# Altium footprint library jointbar.PCBLIB: 193 footprints (part 3 of 13)
Each footprint in its own frame and in the unit in brackets; x right, y up, seen from the top. Pads: shape width x height; smd on the part's side, far side on the other; paste and mask are expansions set on the pad; w line width, h text height; cw(c..) or ccw(c..) is an arc to the next point about the centre after c.
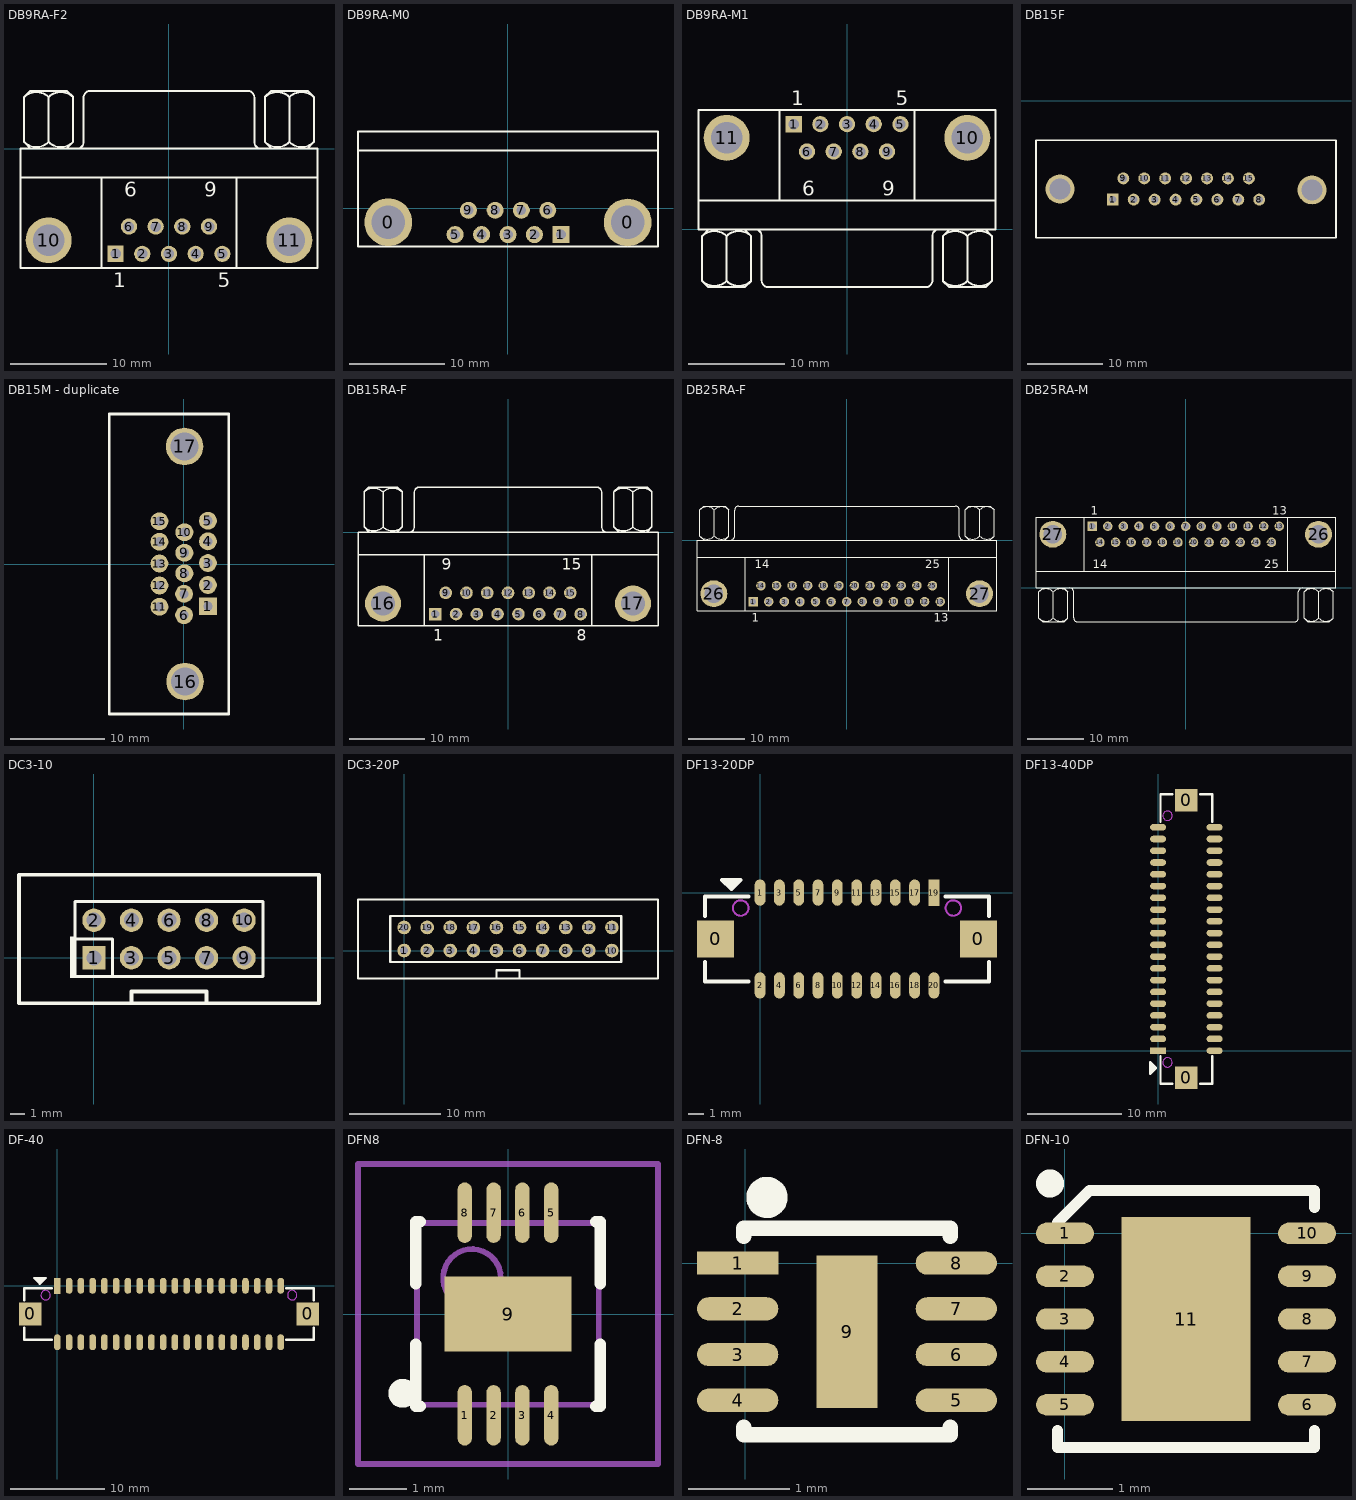
[diagram p2: the footprints below, top view; thin cyan lines are the x and y axes]

## DB9RA-F2 [mm] "Connector; D Subminiature AMPLIMITE 2000; 9 Position; Right Angle"
height 12.75
pads (11):
  rect 1.69x1.69 hole 1.09: 1(-5.54,-10.92)
  round 1.69 hole 1.09: 2(-2.77,-10.92) 3(0,-10.92) 4(2.77,-10.92) 5(5.54,-10.92) 6(-4.155,-8.08) 7(-1.385,-8.08) 8(1.385,-8.08) 9(4.155,-8.08)
  round 4.76 hole 3.26: 10(-12.495,-9.5) 11(12.495,-9.5)
TopOverlay:
  lines w0.2: -15.4,-3 15.4,-3 ; -15.038,5.35 -15.038,0.699 -14.403,0.064 ; -15.038,5.365 -14.403,6 -10.593,6 -9.958,5.365 ; -12.498,0.699 -12.498,5.35 ; -10.593,0.064 -9.958,0.699 -9.958,5.35 ; -9.958,4.086 -9.958,4.298 ; -9.56,0.005 ccw(c-9.56,0.7) -8.865,0.7 -8.865,5.3 ; -8.86,5.305 cw(c-8.165,5.305) -8.165,6 8.165,6 cw(c8.165,5.305) 8.86,5.305 ; -7,-12.4 -7,-3 ; 7,-12.4 7,-3 ; 8.865,5.3 8.865,0.7 ccw(c9.56,0.7) 9.56,0.005 ; 9.962,5.35 9.962,0.699 10.597,0.064 ; 9.962,5.365 10.597,6 14.407,6 15.042,5.365 ; 12.502,0.699 12.502,5.35 ; 14.407,0.064 15.042,0.699 15.042,5.35 ; 15.042,4.086 15.042,4.298 ; -15.4,-12.4 15.4,-12.4 15.4,0 -15.4,0 -15.4,-12.4
  lines w0.203: -15.04,0.697 ccw(c-13.768,1.969) -12.496,0.697 ; -15.038,5.35 cw(c-13.766,4.078) -12.493,5.35 ; -12.502,5.35 cw(c-11.23,4.078) -9.958,5.35 ; -12.5,0.697 ccw(c-11.228,1.969) -9.956,0.697 ; 9.96,0.697 ccw(c11.232,1.969) 12.504,0.697 ; 9.962,5.35 cw(c11.234,4.078) 12.507,5.35 ; 12.498,5.35 cw(c13.77,4.078) 15.042,5.35 ; 12.5,0.697 ccw(c13.772,1.969) 15.044,0.697
  text "6" at -4.655,-4.975 h1.5
  text "9" at 3.655,-4.975 h1.5
  text "5" at 5.04,-14.375 h1.5
  text "1" at -5.79,-14.375 h1.5

## DB9RA-M0 [mil]
height 100
pads (11):
  round 196.85 hole 137.79: 0(-492,-58) 0(494,-59)
  rect 70x70 hole 40: 1(219,-109)
  round 70 hole 40: 2(110,-109) 3(1,-109) 4(-108,-109) 5(-217,-109) 6(165,-9) 7(56,-9) 8(-52,-9) 9(-162,-9)
TopOverlay:
  lines w8: -617,237.26 619,237.26 ; -617,-158.35 -617,316 619,316 619,-158.35 -617,-158.35

## DB9RA-M1 [mm] "Connector; D Subminiature AMPLIMITE 2000; 9 Position; Right Angle"
height 12.75
pads (11):
  rect 1.69x1.69 hole 1.09: 1(-5.54,10.92)
  round 1.69 hole 1.09: 2(-2.77,10.92) 3(0,10.92) 4(2.77,10.92) 5(5.54,10.92) 6(-4.155,8.08) 7(-1.385,8.08) 8(1.385,8.08) 9(4.155,8.08)
  round 4.76 hole 3.26: 10(12.495,9.5) 11(-12.495,9.5)
TopOverlay:
  lines w0.2: -15.4,3 15.4,3 ; -15.042,-5.365 -14.407,-6 -10.597,-6 -9.962,-5.365 ; -15.042,-5.35 -15.042,-0.699 -14.407,-0.064 ; -15.042,-4.298 -15.042,-4.086 ; -12.502,-5.35 -12.502,-0.699 ; -10.597,-0.064 -9.962,-0.699 -9.962,-5.35 ; -9.56,-0.005 cw(c-9.56,-0.7) -8.865,-0.7 -8.865,-5.3 ; -8.86,-5.305 ccw(c-8.165,-5.305) -8.165,-6 8.165,-6 ccw(c8.165,-5.305) 8.86,-5.305 ; -7,3 -7,12.4 ; 7,3 7,12.4 ; 8.865,-5.3 8.865,-0.7 cw(c9.56,-0.7) 9.56,-0.005 ; 9.958,-5.365 10.593,-6 14.403,-6 15.038,-5.365 ; 9.958,-5.35 9.958,-0.699 10.593,-0.064 ; 9.958,-4.298 9.958,-4.086 ; 12.498,-5.35 12.498,-0.699 ; 14.403,-0.064 15.038,-0.699 15.038,-5.35 ; -15.4,0 15.4,0 15.4,12.4 -15.4,12.4 -15.4,0
  lines w0.203: -15.044,-0.697 cw(c-13.772,-1.969) -12.5,-0.697 ; -15.042,-5.35 ccw(c-13.77,-4.078) -12.498,-5.35 ; -12.507,-5.35 ccw(c-11.234,-4.078) -9.962,-5.35 ; -12.504,-0.697 cw(c-11.232,-1.969) -9.96,-0.697 ; 9.956,-0.697 cw(c11.228,-1.969) 12.5,-0.697 ; 9.958,-5.35 ccw(c11.23,-4.078) 12.502,-5.35 ; 12.493,-5.35 ccw(c13.766,-4.078) 15.038,-5.35 ; 12.496,-0.697 cw(c13.768,-1.969) 15.04,-0.697
  text "9" at 3.655,3.48 h1.5
  text "5" at 5.04,12.88 h1.5
  text "1" at -5.79,12.88 h1.5
  text "6" at -4.655,3.48 h1.5

## DB15F [mil]
height 100
pads (17):
  rect 62x62 hole 38: 1(607,-515)
  round 62 hole 38: 2(716,-515) 3(825,-515) 4(934,-515) 5(1043,-515) 6(1152,-515) 7(1261,-515) 8(1370,-515) 9(662,-405) 10(771,-405) 11(880,-405) 12(989,-405) 13(1098,-405) 14(1207,-405) 15(1316,-405)
  round 150 hole 110: ""(332,-460) ""(1645,-465)
TopOverlay:
  lines w8: 207,-715 1770,-715 1770,-205 207,-205 207,-715

## DB15M - duplicate [mil]
pads (17):
  rect 75x75 hole 38: 1(101.5,-177)
  round 75 hole 38: 2(101.5,-88) 3(101.5,4) 4(101.5,95) 5(101.5,181) 6(1.5,-214) 7(1.5,-125) 8(3,-39) 9(3,47) 10(3,133) 11(-101.5,-179) 12(-101.5,-90) 13(-101.5,2) 14(-101.5,93) 15(-101.5,179)
  round 157 hole 118: 16(5.5,-492) 17(3.5,492)
TopOverlay:
  lines w12: -311.5,-628 188.5,-628 188.5,628 -311.5,628 -311.5,-628

## DB15RA-F [mm] "Connector; D Subminiature AMPLIMITE 2000; 15 Position; Right Angle"
height 12.75
pads (17):
  rect 1.69x1.69 hole 1.09: 1(-9.695,-10.92)
  round 1.69 hole 1.09: 2(-6.925,-10.92) 3(-4.155,-10.92) 4(-1.385,-10.92) 5(1.385,-10.92) 6(4.155,-10.92) 7(6.925,-10.92) 8(9.695,-10.92) 9(-8.31,-8.08) 10(-5.54,-8.08) 11(-2.77,-8.08) 12(0,-8.08) 13(2.77,-8.08) 14(5.54,-8.08) 15(8.31,-8.08)
  round 4.8 hole 3.18: 16(-16.66,-9.5) 17(16.66,-9.5)
TopOverlay:
  lines w0.2: -20,-3 20,-3 ; -19.188,5.35 -19.188,0.699 -18.553,0.064 ; -19.188,5.365 -18.553,6 -14.743,6 -14.108,5.365 ; -16.648,0.699 -16.648,5.35 ; -14.743,0.064 -14.108,0.699 -14.108,5.35 ; -14.108,4.086 -14.108,4.298 ; -13.195,0.005 ccw(c-13.195,0.7) -12.5,0.7 -12.5,5.3 ; -12.495,5.305 cw(c-11.8,5.305) -11.8,6 11.8,6 cw(c11.8,5.305) 12.495,5.305 ; -11.14,-12.5 -11.14,-3 ; 11.14,-12.5 11.14,-3 ; 12.5,5.3 12.5,0.7 ccw(c13.195,0.7) 13.195,0.005 ; 14.112,5.35 14.112,0.699 14.747,0.064 ; 14.112,5.365 14.747,6 18.557,6 19.192,5.365 ; 16.652,0.699 16.652,5.35 ; 18.557,0.064 19.192,0.699 19.192,5.35 ; 19.192,4.086 19.192,4.298 ; -20,-12.5 -20,0 20,0 20,-12.5 -20,-12.5
  lines w0.203: -19.19,0.697 ccw(c-17.918,1.969) -16.646,0.697 ; -19.188,5.35 cw(c-17.916,4.078) -16.643,5.35 ; -16.652,5.35 cw(c-15.38,4.078) -14.108,5.35 ; -16.65,0.697 ccw(c-15.378,1.969) -14.106,0.697 ; 14.11,0.697 ccw(c15.382,1.969) 16.654,0.697 ; 14.112,5.35 cw(c15.384,4.078) 16.657,5.35 ; 16.648,5.35 cw(c17.92,4.078) 19.192,5.35 ; 16.65,0.697 ccw(c17.922,1.969) 19.194,0.697
  text "1" at -9.945,-14.475 h1.5
  text "8" at 9.195,-14.475 h1.5
  text "15" at 7.185,-4.975 h1.5
  text "9" at -8.81,-4.975 h1.5

## DB25RA-F [mm] "Connector; D Subminiature AMPLIMITE 2000; 25 Position; Right Angle"
height 12.75
pads (27):
  rect 1.69x1.69 hole 1.09: 1(-16.566,-10.92)
  round 1.69 hole 1.09: 2(-13.805,-10.92) 3(-11.044,-10.92) 4(-8.283,-10.92) 5(-5.522,-10.92) 6(-2.761,-10.92) 7(0,-10.92) 8(2.761,-10.92) 9(5.522,-10.92) 10(8.283,-10.92) 11(11.044,-10.92) 12(13.805,-10.92) 13(16.566,-10.92) 14(-15.185,-8.08) 15(-12.424,-8.08) 16(-9.663,-8.08) 17(-6.902,-8.08) 18(-4.142,-8.08) 19(-1.381,-8.08) 20(1.381,-8.08) 21(4.142,-8.08) 22(6.903,-8.08) 23(9.664,-8.08) 24(12.425,-8.08) 25(15.186,-8.08)
  round 4.76 hole 3.26: 26(-23.526,-9.5) 27(23.526,-9.5)
TopOverlay:
  lines w0.2: -26.496,-3 26.604,-3 ; -25.984,5.35 -25.984,0.699 -25.349,0.064 ; -25.984,5.365 -25.349,6 -21.539,6 -20.904,5.365 ; -23.444,0.699 -23.444,5.35 ; -21.539,0.064 -20.904,0.699 -20.904,5.35 ; -20.904,4.086 -20.904,4.298 ; -20.541,0.005 ccw(c-20.541,0.7) -19.846,0.7 -19.846,5.3 ; -19.841,5.305 cw(c-19.146,5.305) -19.146,6 19.254,6 cw(c19.254,5.305) 19.949,5.305 ; -17.946,-12.5 -17.946,-3 ; 18.054,-12.5 18.054,-3 ; 19.954,5.3 19.954,0.7 ccw(c20.649,0.7) 20.649,0.005 ; 21.016,5.35 21.016,0.699 21.651,0.064 ; 21.016,5.365 21.651,6 25.461,6 26.096,5.365 ; 23.556,0.699 23.556,5.35 ; 25.461,0.064 26.096,0.699 26.096,5.35 ; 26.096,4.086 26.096,4.298 ; -26.496,-12.5 -26.496,0 26.604,0 26.604,-12.5 -26.496,-12.5
  lines w0.203: -25.986,0.697 ccw(c-24.714,1.969) -23.442,0.697 ; -25.984,5.35 cw(c-24.712,4.078) -23.439,5.35 ; -23.448,5.35 cw(c-22.176,4.078) -20.904,5.35 ; -23.446,0.697 ccw(c-22.174,1.969) -20.902,0.697 ; 21.014,0.697 ccw(c22.286,1.969) 23.558,0.697 ; 21.016,5.35 cw(c22.288,4.078) 23.561,5.35 ; 23.552,5.35 cw(c24.824,4.078) 26.096,5.35 ; 23.554,0.697 ccw(c24.826,1.969) 26.098,0.697
  text "25" at 13.935,-4.975 h1.5
  text "14" at -16.31,-4.975 h1.5
  text "13" at 15.441,-14.475 h1.5
  text "1" at -16.816,-14.475 h1.5

## DB25RA-M [mm] "Connector; D Subminiature AMPLIMITE 2000; 25 Position; Right Angle"
height 12.75
pads (27):
  rect 1.69x1.69 hole 1.09: 1(-16.566,10.92)
  round 1.69 hole 1.09: 2(-13.805,10.92) 3(-11.044,10.92) 4(-8.283,10.92) 5(-5.522,10.92) 6(-2.761,10.92) 7(0,10.92) 8(2.761,10.92) 9(5.522,10.92) 10(8.283,10.92) 11(11.044,10.92) 12(13.805,10.92) 13(16.566,10.92) 14(-15.185,8.08) 15(-12.424,8.08) 16(-9.663,8.08) 17(-6.902,8.08) 18(-4.141,8.08) 19(-1.38,8.08) 20(1.381,8.08) 21(4.142,8.08) 22(6.903,8.08) 23(9.664,8.08) 24(12.425,8.08) 25(15.186,8.08)
  round 4.76 hole 3.26: 26(23.526,9.5) 27(-23.526,9.5)
TopOverlay:
  lines w0.2: -26.496,3 26.604,3 ; -25.988,-5.365 -25.353,-6 -21.543,-6 -20.908,-5.365 ; -25.988,-5.35 -25.988,-0.699 -25.353,-0.064 ; -25.988,-4.298 -25.988,-4.086 ; -23.448,-5.35 -23.448,-0.699 ; -21.543,-0.064 -20.908,-0.699 -20.908,-5.35 ; -20.541,-0.005 cw(c-20.541,-0.7) -19.846,-0.7 -19.846,-5.3 ; -19.841,-5.305 ccw(c-19.146,-5.305) -19.146,-6 19.254,-6 ccw(c19.254,-5.305) 19.949,-5.305 ; -17.946,3 -17.946,12.5 ; 18.054,3 18.054,12.5 ; 19.954,-5.3 19.954,-0.7 cw(c20.649,-0.7) 20.649,-0.005 ; 21.012,-5.365 21.647,-6 25.457,-6 26.092,-5.365 ; 21.012,-5.35 21.012,-0.699 21.647,-0.064 ; 21.012,-4.298 21.012,-4.086 ; 23.552,-5.35 23.552,-0.699 ; 25.457,-0.064 26.092,-0.699 26.092,-5.35 ; -26.496,0 -26.496,12.5 26.604,12.5 26.604,0 -26.496,0
  lines w0.203: -25.99,-0.697 cw(c-24.718,-1.969) -23.446,-0.697 ; -25.988,-5.35 ccw(c-24.716,-4.078) -23.444,-5.35 ; -23.453,-5.35 ccw(c-22.18,-4.078) -20.908,-5.35 ; -23.45,-0.697 cw(c-22.178,-1.969) -20.906,-0.697 ; 21.01,-0.697 cw(c22.282,-1.969) 23.554,-0.697 ; 21.012,-5.35 ccw(c22.284,-4.078) 23.556,-5.35 ; 23.547,-5.35 ccw(c24.82,-4.078) 26.092,-5.35 ; 23.55,-0.697 cw(c24.822,-1.969) 26.094,-0.697
  text "25" at 13.936,3.48 h1.5
  text "14" at -16.435,3.48 h1.5
  text "13" at 15.316,12.98 h1.5
  text "1" at -16.816,12.98 h1.5

## DC3-10 [mil]
pads (10):
  rect 62x62 hole 40: 1(0,0)
  round 62 hole 40: 2(0,100) 3(100,0) 4(100,100) 5(200,0) 6(200,100) 7(300,0) 8(300,100) 9(400,0) 10(400,100)
TopOverlay:
  rectangle: -64,-54 -50,56
  lines w8: -50,50 50,50 50,-50 ; -50,-50 450,-50 450,150 -50,150 -50,-50
  lines w10: 100,-121.26 100,-90 300,-90 300,-121.26 ; -199.61,-121.26 599.61,-121.26 599.61,221.26 -199.61,221.26 -199.61,-121.26

## DC3-20P [mm]
pads (20):
  round 1.5 hole 0.9: 1(0,0) 2(2.54,0) 3(5.08,0) 4(7.62,0) 5(10.16,0) 6(12.7,0) 7(15.24,0) 8(17.78,0) 9(20.32,0) 10(22.86,0) 11(22.86,2.54) 12(20.32,2.54) 13(17.78,2.54) 14(15.24,2.54) 15(12.7,2.54) 16(10.16,2.54) 17(7.62,2.54) 18(5.08,2.54) 19(2.54,2.54) 20(0,2.54)
TopOverlay:
  lines w0.254: 10.16,-3.048 10.16,-2.159 12.7,-2.159 12.7,-3.048 ; -5.07,-3.08 -5.07,5.62 27.93,5.62 27.93,-3.08 -5.07,-3.08 ; -1.524,-1.27 23.876,-1.27 23.876,3.81 -1.524,3.81 -1.524,-1.27
3D body: height 10.1, standoff -1.5, extent 11.176,-1.27 23.876,1.27
3D body: height 10.1, standoff -1.5, extent 11.176,1.27 23.876,3.81
3D body: height 10.1, standoff -1.5, extent -1.524,1.27 11.176,3.81
3D body: height 10.1, standoff -1.5, extent -1.524,-1.27 11.176,1.27

## DF13-20DP [mm]
pads (22):
  rect 2.4x2.4 smd: 0(-2.875,-3) 0(14.125,-3)
  oval 0.7x1.7 smd: 1(0,0) 2(0,-6) 3(1.25,0) 4(1.25,-6) 5(2.5,0) 6(2.5,-6) 7(3.75,0) 8(3.75,-6) 9(5,0) 10(5,-6) 11(6.25,0) 12(6.25,-6) 13(7.5,0) 14(7.5,-6) 15(8.75,0) 16(8.75,-6) 17(10,0) 18(10,-6) 20(11.25,-6)
  rect 0.7x1.7 smd: 19(11.25,0)
TopOverlay:
  rectangle: -2.175,0.37 -1.525,0.825
  lines w0.254: -3.55,-4.476 -3.55,-5.75 -0.737,-5.75 ; -3.55,-1.524 -3.55,-0.25 -0.737,-0.25 ; 11.987,-5.75 14.8,-5.75 14.8,-4.476 ; 11.987,-0.25 14.8,-0.25 14.8,-1.524 ; -2.45,0.825 -1.85,0.225 -1.25,0.825 -2.45,0.825
KeepOutLayer:
  circle w0.127: c-1.25,-0.997 r0.5
  circle w0.127: c12.5,-0.997 r0.5
Mechanical1:
  circle w0.127: c-1.25,-0.997 r0.5
  circle w0.127: c12.5,-0.997 r0.5

## DF13-40DP [mm]
pads (42):
  rect 2.4x2.4 smd: 0(3,-2.875) 0(3,26.617)
  rect 1.7x0.7 smd: 1(0,0)
  oval 1.7x0.7 smd: 2(6,0) 3(0,1.25) 4(6,1.25) 5(0,2.5) 6(6,2.5) 7(0,3.75) 8(6,3.75) 9(0,5) 10(6,5) 11(0,6.25) 12(6,6.25) 13(0,7.5) 14(6,7.5) 15(0,8.75) 16(6,8.75) 17(0,10) 18(6,10) 19(0,11.25) 20(6,11.25) 21(0,12.5) 22(6,12.5) 23(0,13.75) 24(6,13.75) 25(0,15) 26(6,15) 27(0,16.25) 28(6,16.25) 29(0,17.5) 30(6,17.5) 31(0,18.75) 32(6,18.75) 33(0,20) 34(6,20) 35(0,21.25) 36(6,21.25) 37(0,22.5) 38(6,22.5) 39(0,23.75) 40(6,23.75)
TopOverlay:
  region: -0.37,-2.175 -0.37,-1.525 -0.825,-1.525 -0.825,-2.175
  lines w0.254: 0.25,-0.613 0.25,-3.51 1.522,-3.51 ; 0.25,24.355 0.25,27.252 1.522,27.252 ; 4.478,-3.51 5.75,-3.51 5.75,-0.613 ; 4.478,27.252 5.75,27.252 5.75,24.355 ; -0.825,-2.45 -0.225,-1.85 -0.825,-1.25 -0.825,-2.45
KeepOutLayer:
  circle w0.127: c0.997,-1.25 r0.5
  circle w0.127: c0.997,24.974 r0.5
Mechanical1:
  circle w0.127: c0.997,-1.25 r0.5
  circle w0.127: c0.997,24.974 r0.5

## DF-40 [mm]
pads (42):
  rect 2.4x2.4 smd: 0(-2.875,-3) 0(26.617,-3)
  rect 0.7x1.7 smd: 1(0,0)
  oval 0.7x1.7 smd: 2(0,-6) 3(1.25,0) 4(1.25,-6) 5(2.5,0) 6(2.5,-6) 7(3.75,0) 8(3.75,-6) 9(5,0) 10(5,-6) 11(6.25,0) 12(6.25,-6) 13(7.5,0) 14(7.5,-6) 15(8.75,0) 16(8.75,-6) 17(10,0) 18(10,-6) 19(11.25,0) 20(11.25,-6) 21(12.5,0) 22(12.5,-6) 23(13.75,0) 24(13.75,-6) 25(15,0) 26(15,-6) 27(16.25,0) 28(16.25,-6) 29(17.5,0) 30(17.5,-6) 31(18.75,0) 32(18.75,-6) 33(20,0) 34(20,-6) 35(21.25,0) 36(21.25,-6) 37(22.5,0) 38(22.5,-6) 39(23.75,0) 40(23.75,-6)
TopOverlay:
  rectangle: -2.175,0.37 -1.525,0.825
  lines w0.254: -3.51,-4.478 -3.51,-5.75 -0.613,-5.75 ; -3.51,-1.522 -3.51,-0.25 -0.613,-0.25 ; 24.355,-5.75 27.252,-5.75 27.252,-4.478 ; 24.355,-0.25 27.252,-0.25 27.252,-1.522 ; -2.45,0.825 -1.85,0.225 -1.25,0.825 -2.45,0.825
KeepOutLayer:
  circle w0.127: c-1.25,-0.997 r0.5
  circle w0.127: c24.974,-0.997 r0.5
Mechanical1:
  circle w0.127: c-1.25,-0.997 r0.5
  circle w0.127: c24.974,-0.997 r0.5

## DFN8 [mm]
height 1
pads (9):
  oval 0.25x1.05 smd: 1(-0.75,-1.756) 2(-0.25,-1.756) 3(0.25,-1.756) 4(0.75,-1.756) 5(0.75,1.756) 6(0.25,1.756) 7(-0.25,1.756) 8(-0.75,1.756)
  rect 2.2x1.3 smd: 9(0,0)
TopOverlay:
  circle w0.25: c-1.825,-1.375 r0.125
  lines w0.2: -1.6,-0.525 -1.6,-1.6 -1.525,-1.6 ; -1.6,0.525 -1.6,1.6 -1.525,1.6 ; 1.525,-1.6 1.6,-1.6 1.6,-0.525 ; 1.525,1.6 1.6,1.6 1.6,0.525
Mechanical13:
  circle w0.1: c-0.625,0.625 r0.5
  lines w0.1: -1.575,-1.575 1.575,-1.575 1.575,1.575 -1.575,1.575 -1.575,-1.575
Mechanical15:
  lines w0.1: -0.5,0 0.5,0 ; 0,-0.5 0,0.5 ; -2.6,-2.6 2.6,-2.6 2.6,2.6 -2.6,2.6 -2.6,-2.6
3D body: height 1, standoff 0.02, extent -1.575,-1.575 1.575,1.575

## DFN-8 [mm]
pads (9):
  rect 0.8x0.229 smd: 1(-0.076,0)
  oval 0.8x0.229 smd: 2(-0.076,-0.45) 3(-0.076,-0.9) 4(-0.076,-1.35) 5(2.076,-1.35) 6(2.076,-0.9) 7(2.076,-0.45) 8(2.076,0)
  rect 0.6x1.5 smd: 9(1,-0.675)
TopOverlay:
  circle w0.203: c0.213,0.646 r0.102
  lines w0.152: -0.016,-1.615 -0.016,-1.691 2.016,-1.691 2.016,-1.615 ; -0.016,0.265 -0.016,0.341 2.016,0.341 2.016,0.265

## DFN-10 [mm]
height 1
pads (11):
  oval 0.675x0.25 smd: 1(0,0) 2(0,-0.5) 3(0,-1) 4(0,-1.5) 5(0,-2) 6(2.825,-2) 7(2.825,-1.5) 8(2.825,-1) 9(2.825,-0.5) 10(2.825,0)
  rect 1.5x2.38 smd: 11(1.412,-1)
TopOverlay:
  circle w0.254: c-0.175,0.582 r0.036
  lines w0.127: -0.088,-2.3 -0.088,-2.5 2.912,-2.5 2.912,-2.3 ; -0.088,0.125 0.288,0.5 2.912,0.5 2.912,0.3